# Altium schematic symbol library 9-6437287-8.SchLib: 1 symbol
Pins are listed as number, name and electrical type; pins without a type are passive.

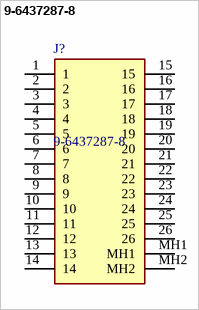
[diagram p0: symbol 9-6437287-8]

## 9-6437287-8
designator J?
Header horizontal 26 way pin SuperSeal; Manufacturer_Name: TE Connectivity; Geometry.Height: 27.9mm; Mouser Part Number: 571-9-6437287-8; Mouser Price/Stock: https://www.mouser.co.uk/ProductDetail/TE-Connectivity/9-6437287-8?qs=c1ErmWplw0NzPHbjoONVkQ%3D%3D; Manufacturer_Part_Number: 9-6437287-8; Datasheet Link: https://componentsearchengine.com/Datasheets/2/9-6437287-8.pdf
footprint 964372878
pins: 1, 2, 3, 4, 5, 6, 7, 8, 9, 10, 11, 12, 13, 14, 15, 16, 17, 18, 19, 20, 21, 22, 23, 24, 25, 26, MH1, MH2